# EAGLE library part EPG.1B.308.HLN (library lplemo)
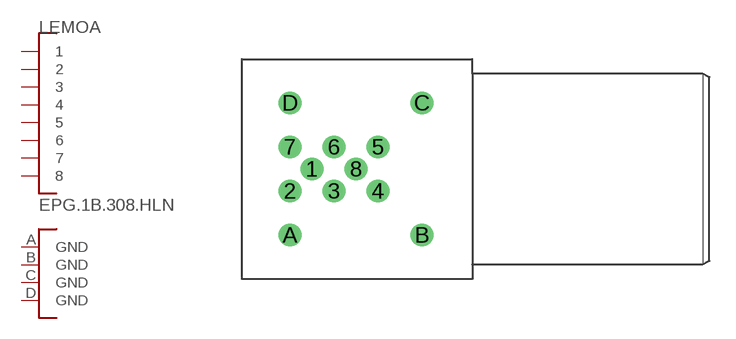
[diagram p16: symbol with the pads of P19-EPG-EXG-1B.308; footprint P19-EPG-EXG-1B.308]

Designator prefix LEMO; gates A=C8 B=GND4

## EPG.1B.308.HLN  [P19-EPG-EXG-1B.308]
1  A:1
2  A:2
3  A:3
4  A:4
5  A:5
6  A:6
7  A:7
8  A:8
A  B:GND  pwr
B  B:GND  pwr
C  B:GND  pwr
D  B:GND  pwr

## Footprint P19-EPG-EXG-1B.308 (pad centres in mm)
drill 0.8 round: 1 -6.35,0; 2 -7.62,-1.27; 3 -5.08,-1.27; 4 -2.54,-1.27; 5 -2.54,1.27; 6 -5.08,1.27; 7 -7.62,1.27; 8 -3.81,0; A -7.62,-3.81; B 0,-3.81; C 0,3.81; D -7.62,3.81